# EAGLE library part POWER_BRICK_CONNECTORS(2X15) (library PDB_TO_BRICKS)
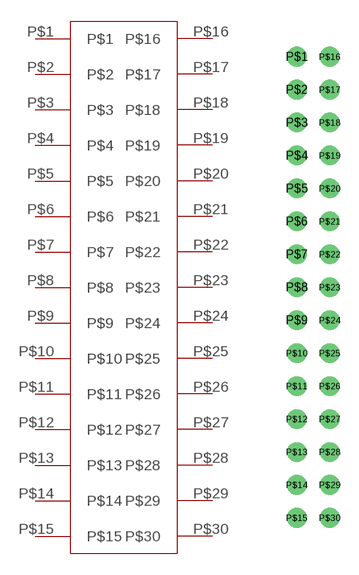
[diagram p1: symbol with the pads of POWER_BRICK_CONNECTORS(2X15); footprint POWER_BRICK_CONNECTORS(2X15)]

Designator prefix -

## POWER_BRICK_CONNECTORS(2X15)  [POWER_BRICK_CONNECTORS(2X15)]
P$1  P$1
P$2  P$2
P$3  P$3
P$4  P$4
P$5  P$5
P$6  P$6
P$7  P$7
P$8  P$8
P$9  P$9
P$10  P$10
P$11  P$11
P$12  P$12
P$13  P$13
P$14  P$14
P$15  P$15
P$16  P$16
P$17  P$17
P$18  P$18
P$19  P$19
P$20  P$20
P$21  P$21
P$22  P$22
P$23  P$23
P$24  P$24
P$25  P$25
P$26  P$26
P$27  P$27
P$28  P$28
P$29  P$29
P$30  P$30

## Footprint POWER_BRICK_CONNECTORS(2X15) (pad centres in mm)
drill 1: P$1 -1.27,19.05; P$2 -1.27,16.51; P$3 -1.27,13.97; P$4 -1.27,11.43; P$5 -1.27,8.89; P$6 -1.27,6.35; P$7 -1.27,3.81; P$8 -1.27,1.27; P$9 -1.27,-1.27; P$10 -1.27,-3.81; P$11 -1.27,-6.35; P$12 -1.27,-8.89; P$13 -1.27,-11.43; P$14 -1.27,-13.97; P$15 -1.27,-16.51; P$16 1.27,19.05; P$17 1.27,16.51; P$18 1.27,13.97; P$19 1.27,11.43; P$20 1.27,8.89; P$21 1.27,6.35; P$22 1.27,3.81; P$23 1.27,1.27; P$24 1.27,-1.27; P$25 1.27,-3.81; P$26 1.27,-6.35; P$27 1.27,-8.89; P$28 1.27,-11.43; P$29 1.27,-13.97; P$30 1.27,-16.51